# Altium footprint library ETQ-P3M1R5KVP.PcbLib: 1 footprints
Each footprint in its own frame and in the unit in brackets; x right, y up, seen from the top. Pads: shape width x height; smd on the part's side, far side on the other; paste and mask are expansions set on the pad; w line width, h text height; cw(c..) or ccw(c..) is an arc to the next point about the centre after c.
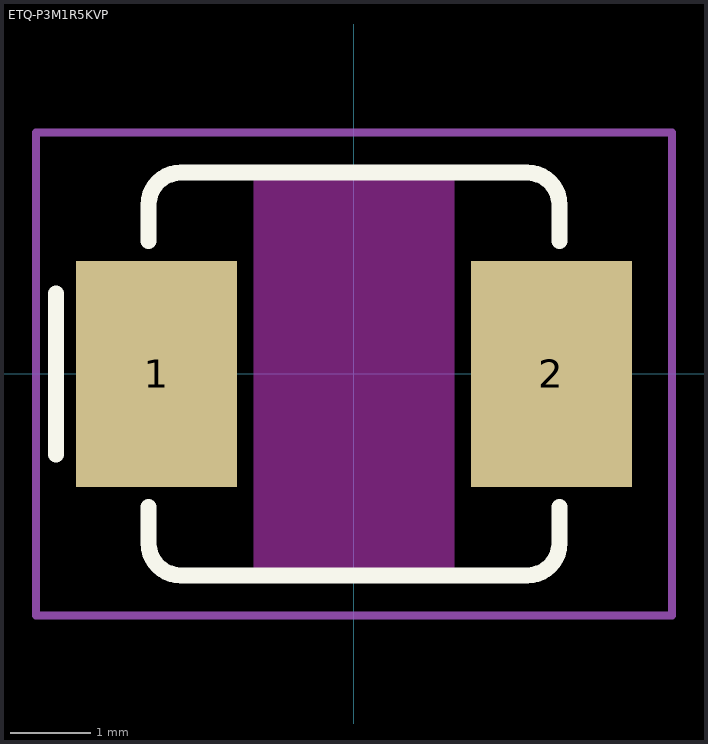
[diagram p0: the footprint, top view; thin cyan lines are the x and y axes]

## ETQ-P3M1R5KVP [mm]
pads (2):
  rect 2x2.8 smd: 1(-2.45,0) 2(2.45,0)
Top Layer keep-out:
  rectangle: -1.25,-2.5 1.25,2.5
Top Overlay:
  lines w0.2: -3.7,-1 -3.7,1 ; -2.55,-1.65 -2.55,-2.1 ccw(c-2.15,-2.1) -2.15,-2.5 2.15,-2.5 ccw(c2.15,-2.1) 2.55,-2.1 2.55,-1.65 ; -2.55,1.65 -2.55,2.1 cw(c-2.15,2.1) -2.15,2.5 2.15,2.5 cw(c2.15,2.1) 2.55,2.1 2.55,1.65
Top Courtyard:
  lines w0.1: -3.95,-3 -2.15,-3 3.95,-3 3.95,3 -3.95,3 -3.95,-3
3D body "PCC-M0530M-LP.STEP": height 3.04, standoff 0.04, extent -2.75,-2.5 2.75,2.5